# EAGLE library part 74HCT2G04 (library PP_DigitalIC)
Manufacturer Part #: 74HCT2G04 Manufacturer: NXP Semiconductors Description: Inverters 5V 2-INPUT SINGLE
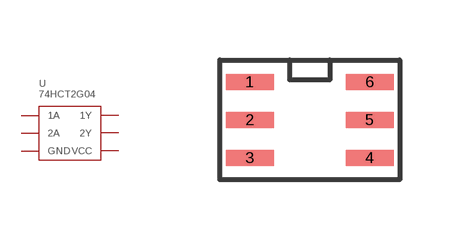
[diagram p15: symbol with the pads of 74HCT2G04_TTSOP-6; footprint 74HCT2G04_TTSOP-6]

Designator prefix U

## 74HCT2G04GV,125  [74HCT2G04_TTSOP-6]
1  1A
2  GND
3  2A
4  2Y
5  VCC
6  1Y

## Footprint 74HCT2G04_TTSOP-6 (pad centres in mm)
smd 1.2 x 0.4: 1 -1.5,0.95; 2 -1.5,0; 3 -1.5,-0.95; 4 1.5,-0.95; 5 1.5,0; 6 1.5,0.95